# Altium schematic symbol library 653 1xx 124 022.SchLib: 14 symbols
Pins are listed as number, name and electrical type; pins without a type are passive.

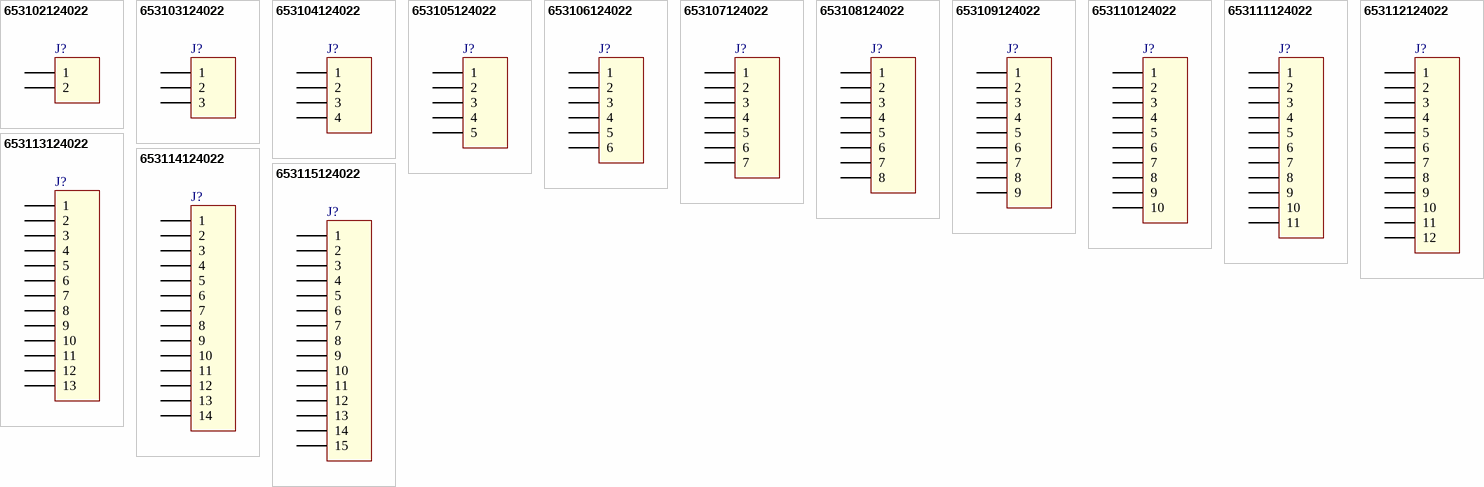
[diagram p0: symbols 653102124022 to 653115124022]

## 653102124022
designator J?
WR-WTB 1.25mm SMT Male Vertical Shrouded Header, 2p; Part Number: 653102124022; Pin Number: 2; ComponentLink1Description: Manufacturer; ComponentLink1URL: http://www.we-online.de; ComponentLink2Description: Datasheet; ComponentLink2URL: http://katalog.we-online.de/em/datasheet/6531xx124022.pdf; Published Date: June 2017; Publisher: Wurth Elektronik; Pitch: 1.25 mm
footprint 653102124022 (1.25mm SMT Male Vertical Shrouded Header, 2p)
pins: 1, 2

## 653103124022
designator J?
WR-WTB 1.25mm SMT Male Vertical Shrouded Header, 3p; Part Number: 653103124022; Pin Number: 3; ComponentLink1Description: Manufacturer; ComponentLink1URL: http://www.we-online.de; ComponentLink2Description: Datasheet; ComponentLink2URL: http://katalog.we-online.de/em/datasheet/6531xx124022.pdf; Published Date: June 2017; Publisher: Wurth Elektronik; Pitch: 1.25 mm
footprint 653103124022 (1.25mm SMT Male Vertical Shrouded Header, 3p)
pins: 1, 2, 3

## 653104124022
designator J?
WR-WTB 1.25mm SMT Male Vertical Shrouded Header, 4p; Part Number: 653104124022; Pin Number: 4; ComponentLink1Description: Manufacturer; ComponentLink1URL: http://www.we-online.de; ComponentLink2Description: Datasheet; ComponentLink2URL: http://katalog.we-online.de/em/datasheet/6531xx124022.pdf; Published Date: June 2017; Publisher: Wurth Elektronik; Pitch: 1.25 mm
footprint 653104124022 (1.25mm SMT Male Vertical Shrouded Header, 4p)
pins: 1, 2, 3, 4

## 653105124022
designator J?
WR-WTB 1.25mm SMT Male Vertical Shrouded Header, 5p; Part Number: 653105124022; Pin Number: 5; ComponentLink1Description: Manufacturer; ComponentLink1URL: http://www.we-online.de; ComponentLink2Description: Datasheet; ComponentLink2URL: http://katalog.we-online.de/em/datasheet/6531xx124022.pdf; Published Date: June 2017; Publisher: Wurth Elektronik; Pitch: 1.25 mm
footprint 653105124022 (1.25mm SMT Male Vertical Shrouded Header, 5p)
pins: 1, 2, 3, 4, 5

## 653106124022
designator J?
WR-WTB 1.25mm SMT Male Vertical Shrouded Header, 6p; Part Number: 653106124022; Pin Number: 6; ComponentLink1Description: Manufacturer; ComponentLink1URL: http://www.we-online.de; ComponentLink2Description: Datasheet; ComponentLink2URL: http://katalog.we-online.de/em/datasheet/6531xx124022.pdf; Published Date: June 2017; Publisher: Wurth Elektronik; Pitch: 1.25 mm
footprint 653106124022 (1.25mm SMT Male Vertical Shrouded Header, 6p)
pins: 1, 2, 3, 4, 5, 6

## 653107124022
designator J?
WR-WTB 1.25mm SMT Male Vertical Shrouded Header, 7p; Part Number: 653107124022; Pin Number: 7; ComponentLink1Description: Manufacturer; ComponentLink1URL: http://www.we-online.de; ComponentLink2Description: Datasheet; ComponentLink2URL: http://katalog.we-online.de/em/datasheet/6531xx124022.pdf; Published Date: June 2017; Publisher: Wurth Elektronik; Pitch: 1.25 mm
footprint 653107124022 (1.25mm SMT Male Vertical Shrouded Header, 7p)
pins: 1, 2, 3, 4, 5, 6, 7

## 653108124022
designator J?
WR-WTB 1.25mm SMT Male Vertical Shrouded Header, 8p; Part Number: 653108124022; Pin Number: 8; ComponentLink1Description: Manufacturer; ComponentLink1URL: http://www.we-online.de; ComponentLink2Description: Datasheet; ComponentLink2URL: http://katalog.we-online.de/em/datasheet/6531xx124022.pdf; Published Date: June 2017; Publisher: Wurth Elektronik; Pitch: 1.25 mm
footprint 653108124022 (1.25mm SMT Male Vertical Shrouded Header, 8p)
pins: 1, 2, 3, 4, 5, 6, 7, 8

## 653109124022
designator J?
WR-WTB 1.25mm SMT Male Vertical Shrouded Header, 9p; Part Number: 653109124022; Pin Number: 9; ComponentLink1Description: Manufacturer; ComponentLink1URL: http://www.we-online.de; ComponentLink2Description: Datasheet; ComponentLink2URL: http://katalog.we-online.de/em/datasheet/6531xx124022.pdf; Published Date: June 2017; Publisher: Wurth Elektronik; Pitch: 1.25 mm
footprint 653109124022 (1.25mm SMT Male Vertical Shrouded Header, 9p)
pins: 1, 2, 3, 4, 5, 6, 7, 8, 9

## 653110124022
designator J?
WR-WTB 1.25mm SMT Male Vertical Shrouded Header, 10p; Part Number: 653110124022; Pin Number: 10; ComponentLink1Description: Manufacturer; ComponentLink1URL: http://www.we-online.de; ComponentLink2Description: Datasheet; ComponentLink2URL: http://katalog.we-online.de/em/datasheet/6531xx124022.pdf; Published Date: June 2017; Publisher: Wurth Elektronik; Pitch: 1.25 mm
footprint 653110124022 (1.25mm SMT Male Vertical Shrouded Header, 10p)
pins: 1, 2, 3, 4, 5, 6, 7, 8, 9, 10

## 653111124022
designator J?
WR-WTB 1.25mm SMT Male Vertical Shrouded Header, 11p; Part Number: 653111124022; Pin Number: 11; ComponentLink1Description: Manufacturer; ComponentLink1URL: http://www.we-online.de; ComponentLink2Description: Datasheet; ComponentLink2URL: http://katalog.we-online.de/em/datasheet/6531xx124022.pdf; Published Date: June 2017; Publisher: Wurth Elektronik; Pitch: 1.25 mm
footprint 653111124022 (1.25mm SMT Male Vertical Shrouded Header, 11p)
pins: 1, 2, 3, 4, 5, 6, 7, 8, 9, 10, 11

## 653112124022
designator J?
WR-WTB 1.25mm SMT Male Vertical Shrouded Header, 12p; Part Number: 653112124022; Pin Number: 12; ComponentLink1Description: Manufacturer; ComponentLink1URL: http://www.we-online.de; ComponentLink2Description: Datasheet; ComponentLink2URL: http://katalog.we-online.de/em/datasheet/6531xx124022.pdf; Published Date: June 2017; Publisher: Wurth Elektronik; Pitch: 1.25 mm
footprint 653112124022 (1.25mm SMT Male Vertical Shrouded Header, 12p)
pins: 1, 2, 3, 4, 5, 6, 7, 8, 9, 10, 11, 12

## 653113124022
designator J?
WR-WTB 1.25mm SMT Male Vertical Shrouded Header, 13p; Part Number: 653113124022; Pin Number: 13; ComponentLink1Description: Manufacturer; ComponentLink1URL: http://www.we-online.de; ComponentLink2Description: Datasheet; ComponentLink2URL: http://katalog.we-online.de/em/datasheet/6531xx124022.pdf; Published Date: June 2017; Publisher: Wurth Elektronik; Pitch: 1.25 mm
footprint 653113124022 (1.25mm SMT Male Vertical Shrouded Header, 13p)
pins: 1, 2, 3, 4, 5, 6, 7, 8, 9, 10, 11, 12, 13

## 653114124022
designator J?
WR-WTB 1.25mm SMT Male Vertical Shrouded Header, 14p; Part Number: 653114124022; Pin Number: 14; ComponentLink1Description: Manufacturer; ComponentLink1URL: http://www.we-online.de; ComponentLink2Description: Datasheet; ComponentLink2URL: http://katalog.we-online.de/em/datasheet/6531xx124022.pdf; Published Date: June 2017; Publisher: Wurth Elektronik; Pitch: 1.25 mm
footprint 653114124022 (1.25mm SMT Male Vertical Shrouded Header, 14p)
pins: 1, 2, 3, 4, 5, 6, 7, 8, 9, 10, 11, 12, 13, 14

## 653115124022
designator J?
WR-WTB 1.25mm SMT Male Vertical Shrouded Header, 15p; Part Number: 653115124022; Pin Number: 15; ComponentLink1Description: Manufacturer; ComponentLink1URL: http://www.we-online.de; ComponentLink2Description: Datasheet; ComponentLink2URL: http://katalog.we-online.de/em/datasheet/6531xx124022.pdf; Published Date: June 2017; Publisher: Wurth Elektronik; Pitch: 1.25 mm
footprint 653115124022 (1.25mm SMT Male Vertical Shrouded Header, 15p)
pins: 1, 2, 3, 4, 5, 6, 7, 8, 9, 10, 11, 12, 13, 14, 15